# Altium schematic symbol library basic07_connectors.schlib: 1 symbol
Pins are listed as number, name and electrical type; pins without a type are passive.

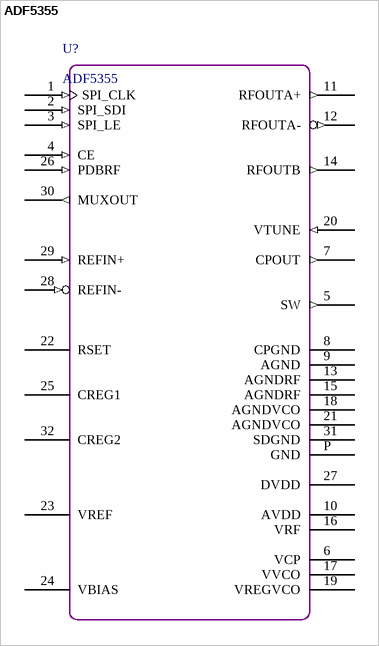
[diagram p0: symbol ADF5355]

## ADF5355
designator U?
35MHz ~ 14GHz Wideband Synthesizer with Integrated VCO; VendorPartNumber: ADF5355BCPZ; LocalPartNumber: IC02-ADF5355; Vendor: Analog Devices; EngineerName: Shyu Lee (Xu Li); EngineerEmail: shyu.lee@gmail.com; Value: ADF5355; Publisher: MiniLab; Version: 1.0; VersionDate: 01-06-2014
footprint QFN-5-32 (QFN, 5x5mm, 32pins)
pins: 1 SPI_CLK (in), 2 SPI_SDI (in), 3 SPI_LE (in), 4 CE (in), 5 SW (out), 6 VCP, 7 CPOUT (out), 8 CPGND, 9 AGND, 10 AVDD, 11 RFOUTA+ (out), 12 RFOUTA- (out), 13 AGNDRF, 14 RFOUTB (out), 15 AGNDRF, 16 VRF, 17 VVCO, 18 AGNDVCO, 19 VREGVCO, 20 VTUNE (in), 21 AGNDVCO, 22 RSET, 23 VREF, 24 VBIAS, 25 CREG1, 26 PDBRF (in), 27 DVDD, 28 REFIN- (in), 29 REFIN+ (in), 30 MUXOUT (out), 31 SDGND, 32 CREG2, P GND